# Altium schematic symbol library ULN2803A.SchLib: 1 symbol
Pins are listed as number, name and electrical type; pins without a type are passive.

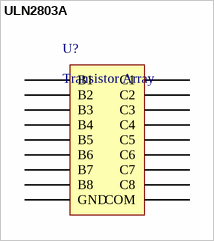
[diagram p0: symbol ULN2803A]

## ULN2803A
designator U?, comment Transistor Array
Dartington Transistor Array
pins: 1 B1, 2 B2, 3 B3, 4 B4, 5 B5, 6 B6, 7 B7, 8 B8, 9 GND, 10 COM, 11 C8, 12 C7, 13 C6, 14 C5, 15 C4, 16 C3, 17 C2, 18 C1